# Altium footprint library 7.5mm_NTC_THT.PcbLib: 1 footprints
Each footprint in its own frame and in the unit in brackets; x right, y up, seen from the top. Pads: shape width x height; smd on the part's side, far side on the other; paste and mask are expansions set on the pad; w line width, h text height; cw(c..) or ccw(c..) is an arc to the next point about the centre after c.
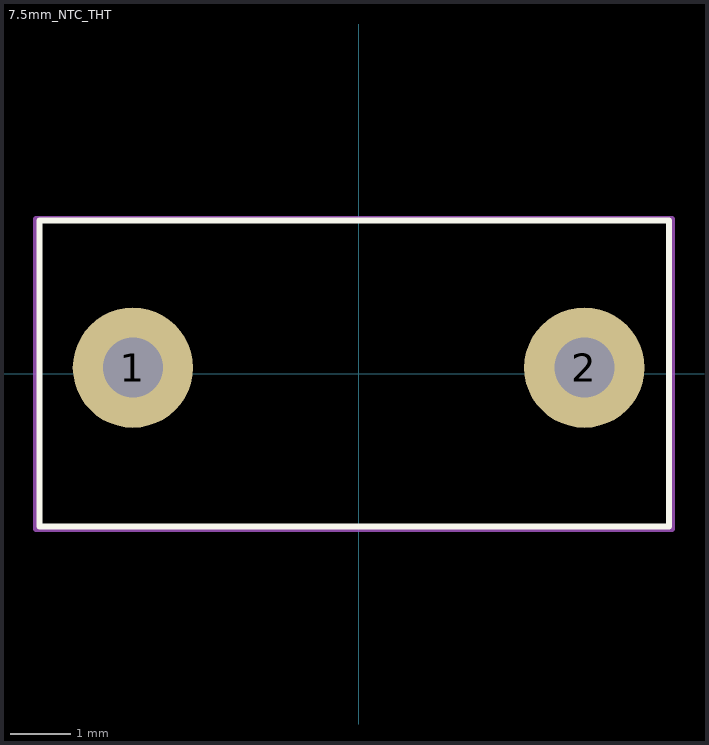
[diagram p0: the footprint, top view; thin cyan lines are the x and y axes]

## 7.5mm_NTC_THT [mm] "7.5mm_NTC_THT"
pads (2):
  round 2 hole 1 paste-2 mask+0: 1(-3.75,0.1) 2(3.75,0.1)
Top Overlay:
  lines w0.1: -5.306,-2.54 5.157,-2.54 5.157,2.54 -5.306,2.54 -5.306,-2.54
Mechanical 1:
  lines w0.1: -5.363,-2.581 5.209,-2.581 5.209,2.568 -5.363,2.568 -5.363,-2.581
  text ".Designator" at 0,0.188 h1
Mechanical 15:
  text "+" at -0.333,-0.5 h1
3D body "C_Disc_D10.5mm_W5.0mm_P7.50mm.step": height 10.49, standoff -2.1, extent -5.296,-2.528 5.204,2.472